# Altium schematic symbol library Cap_Yageo_CC0402KRX5R8BB224_220nF.SchLib: 1 symbol
Pins are listed as number, name and electrical type; pins without a type are passive.

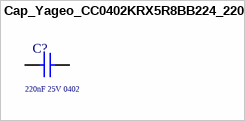
[diagram p0: symbol Cap_Yageo_CC0402KRX5R8BB224_220nF]

## Cap_Yageo_CC0402KRX5R8BB224_220nF
designator C?  Capacitance: 220nF 25V 0402  (hidden comment: Cap_Yageo_CC0402KRX5R8BB224_220nF)
CAP CER 220nF 25V X5R 0402; Supplier 1: Mouser; Supplier Part Number 1: 603-CC402KRX5R8BB224
footprint Cap_Yageo_CC0402KRX5R8BB224_220nF
pins: 1, 2